# EAGLE library part ARDUINO (library merriman)
Arduino Diecimila I/O pin arrangement for user shields
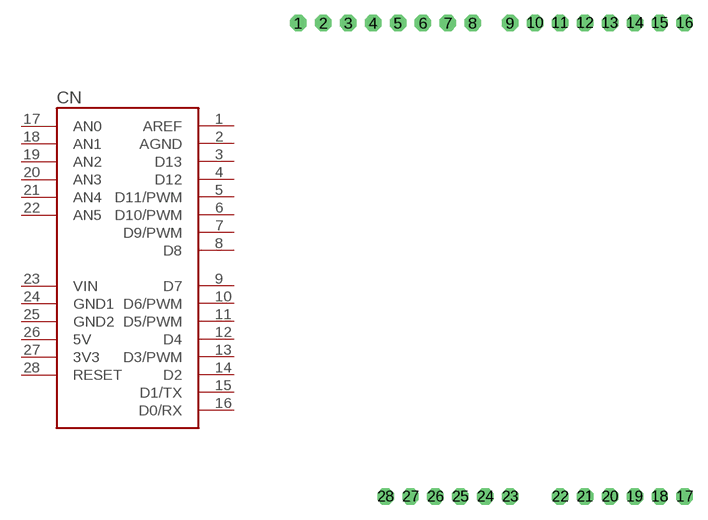
[diagram p0: symbol with the pads of ARDUINO; footprint ARDUINO]

Designator prefix CN

## ARDUINO  [ARDUINO]
1  AREF
2  AGND
3  D13
4  D12
5  D11/PWM
6  D10/PWM
7  D9/PWM
8  D8
9  D7
10  D6/PWM
11  D5/PWM
12  D4
13  D3/PWM
14  D2
15  D1/TX
16  D0/RX
17  AN0
18  AN1
19  AN2
20  AN3
21  AN4
22  AN5
23  VIN
24  GND1
25  GND2
26  5V
27  3V3
28  RESET

## Footprint ARDUINO (pad centres in mm)
Matching connections to piggyback onto Arduino Diecimila
drill 0.8 pad 1.676 octagon: 1 -21.59,22.86; 2 -19.05,22.86; 3 -16.51,22.86; 4 -13.97,22.86; 5 -11.43,22.86; 6 -8.89,22.86; 7 -6.35,22.86; 8 -3.81,22.86; 9 0,22.86; 10 2.54,22.86; 11 5.08,22.86; 12 7.62,22.86; 13 10.16,22.86; 14 12.7,22.86; 15 15.24,22.86; 16 17.78,22.86; 17 17.78,-25.4; 18 15.24,-25.4; 19 12.7,-25.4; 20 10.16,-25.4; 21 7.62,-25.4; 22 5.08,-25.4; 23 0,-25.4; 24 -2.54,-25.4; 25 -5.08,-25.4; 26 -7.62,-25.4; 27 -10.16,-25.4; 28 -12.7,-25.4